# Altium schematic symbol library Flight Controller 2.SchLib: 9 symbols
Pins are listed as number, name and electrical type; pins without a type are passive.

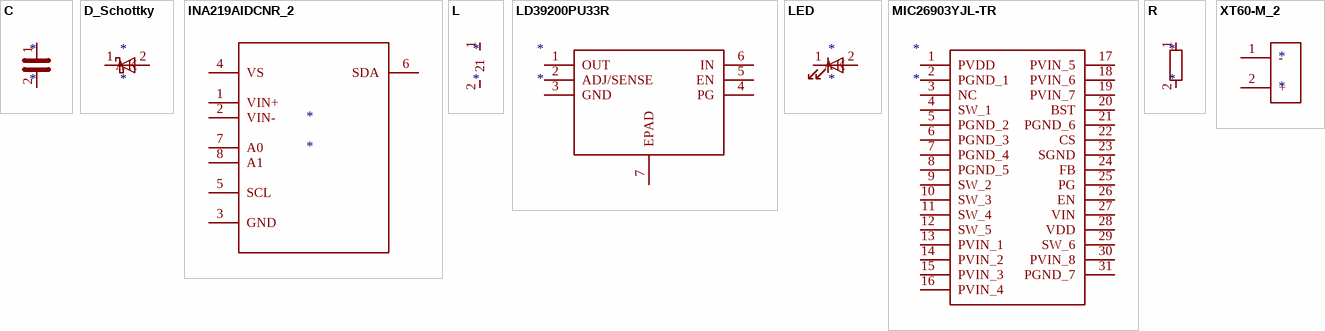
[diagram p0: symbols C to XT60-M_2]

## C
designator *
pins: 1, 2

## D_Schottky
designator *
pins: 1 K, 2 A

## INA219AIDCNR_2
designator *
pins: 1 VIN+, 2 VIN-, 3 GND, 4 VS, 5 SCL, 6 SDA, 7 A0, 8 A1

## L
designator *
pins: 1, 2

## LD39200PU33R
designator *
pins: 1 OUT, 2 ADJ/SENSE, 3 GND, 4 PG, 5 EN, 6 IN, 7 EPAD

## LED
designator *
pins: 1 K, 2 A

## MIC26903YJL-TR
designator *
pins: 1 PVDD, 2 PGND_1, 3 NC, 4 SW_1, 5 PGND_2, 6 PGND_3, 7 PGND_4, 8 PGND_5, 9 SW_2, 10 SW_3, 11 SW_4, 12 SW_5, 13 PVIN_1, 14 PVIN_2, 15 PVIN_3, 16 PVIN_4, 17 PVIN_5, 18 PVIN_6, 19 PVIN_7, 20 BST, 21 PGND_6, 22 CS, 23 SGND, 24 FB, 25 PG, 26 EN, 27 VIN, 28 VDD, 29 SW_6, 30 PVIN_8, 31 PGND_7

## R
designator *
pins: 1, 2

## XT60-M_2
designator *
pins: 1 -, 2 +